# Altium footprint library Connectors.PcbLib: 29 footprints (part 2 of 2)
Each footprint in its own frame and in the unit in brackets; x right, y up, seen from the top. Pads: shape width x height; smd on the part's side, far side on the other; paste and mask are expansions set on the pad; w line width, h text height; cw(c..) or ccw(c..) is an arc to the next point about the centre after c.
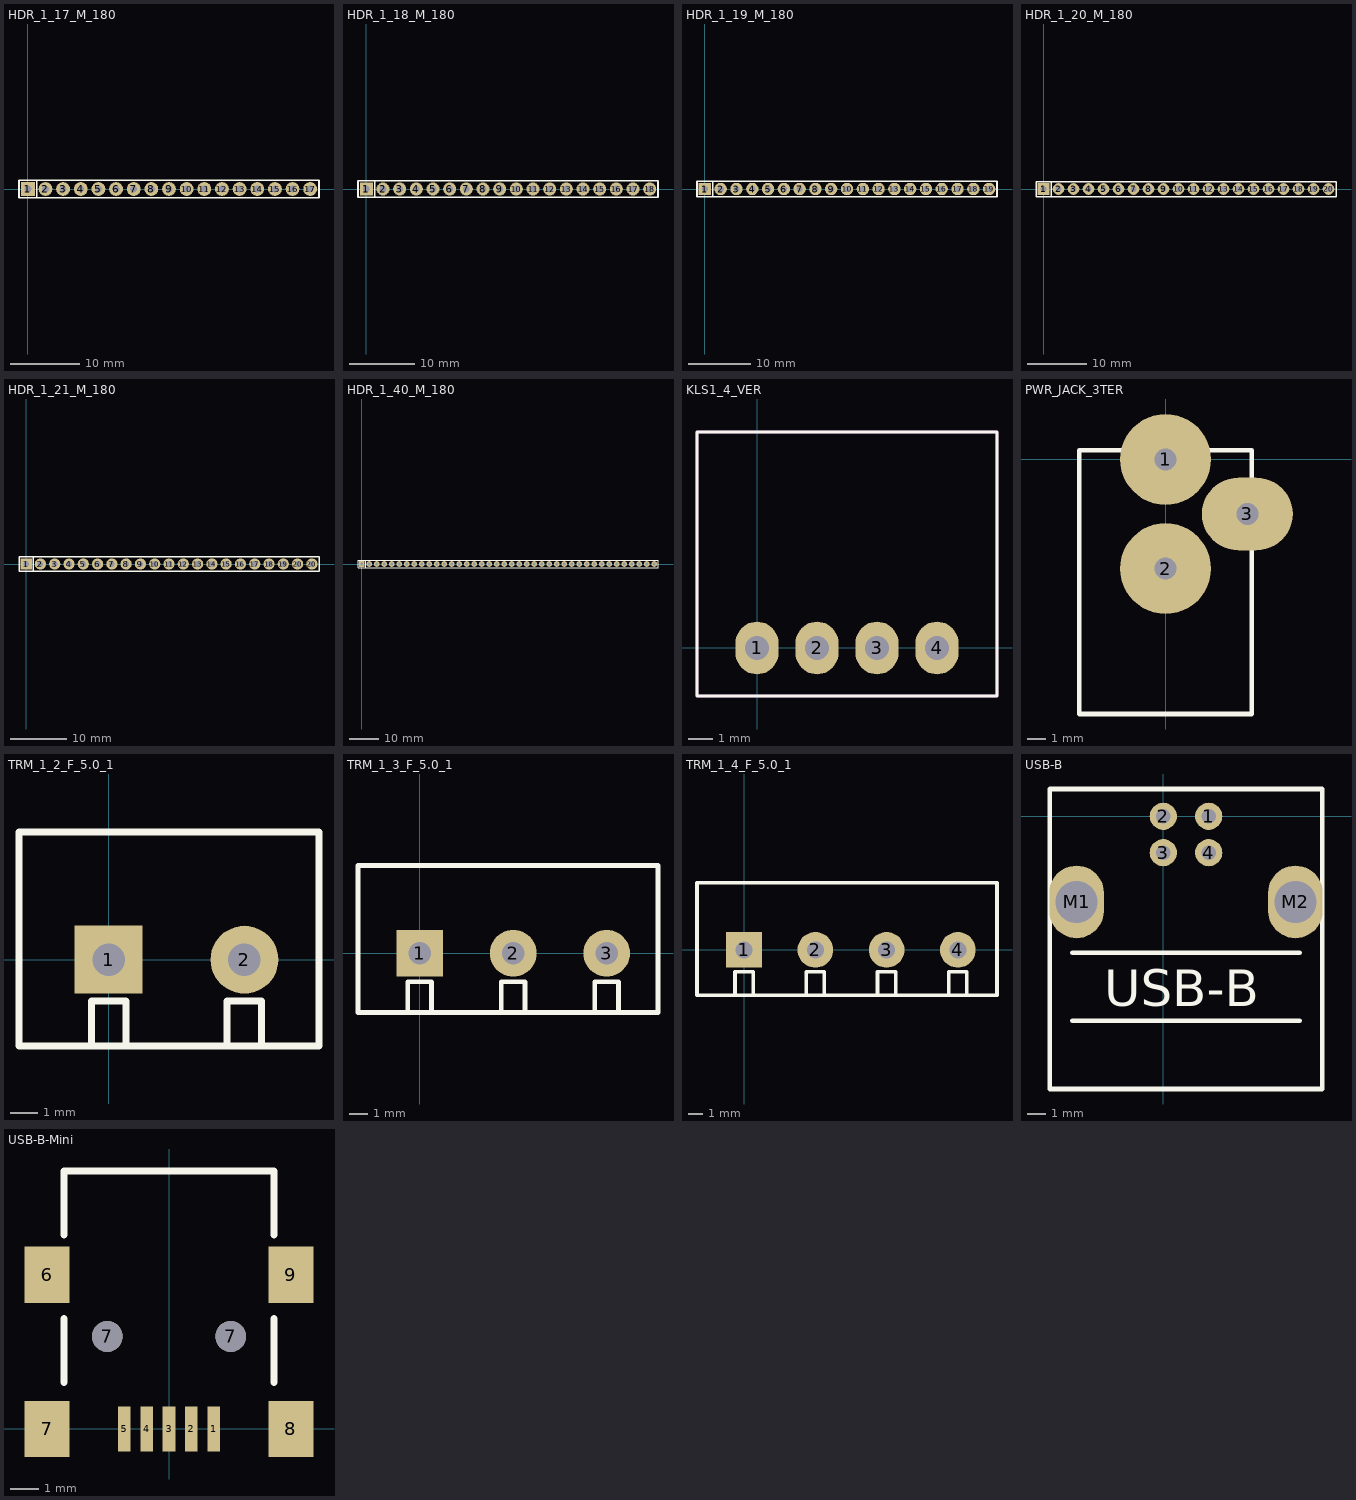
[diagram p1: the footprints below, top view; thin cyan lines are the x and y axes]

## HDR_1_17_M_180 [mm]
pads (17):
  rect 2x2 hole 1: 1(0,0)
  round 2 hole 1: 2(2.54,0) 3(5.08,0) 4(7.62,0) 5(10.16,0) 6(12.7,0) 7(15.24,0) 8(17.78,0) 9(20.32,0) 10(22.86,0) 11(25.4,0) 12(27.94,0) 13(30.48,0) 14(33.02,0) 15(35.56,0) 16(38.1,0) 17(40.64,0)
Top Overlay:
  lines w0.254: 1.27,-1.27 1.27,1.27 ; -1.27,-1.27 41.91,-1.27 41.91,1.27 -1.27,1.27 -1.27,-1.27
3D body "User Library-Header Vertical 2_54mm Pitch2-1.step": height 5.94, standoff -2.94, extent 34.29,-1.27 36.83,1.27
3D body "User Library-Header Vertical 2_54mm Pitch2-1.step": height 5.94, standoff -2.94, extent 31.75,-1.27 34.29,1.27
3D body "User Library-Header Vertical 2_54mm Pitch2-1.step": height 5.94, standoff -2.94, extent 29.21,-1.27 31.75,1.27
3D body "User Library-Header Vertical 2_54mm Pitch2-1.step": height 5.94, standoff -2.94, extent 26.67,-1.27 29.21,1.27
3D body "User Library-Header Vertical 2_54mm Pitch2-1.step": height 5.94, standoff -2.94, extent 24.13,-1.27 26.67,1.27
3D body "User Library-Header Vertical 2_54mm Pitch2-1.step": height 5.94, standoff -2.94, extent 39.37,-1.27 41.91,1.27
3D body "User Library-Header Vertical 2_54mm Pitch2-1.step": height 5.94, standoff -2.94, extent 36.83,-1.27 39.37,1.27
3D body "User Library-Header Vertical 2_54mm Pitch2-1.step": height 5.94, standoff -2.94, extent 8.89,-1.27 11.43,1.27
3D body "User Library-Header Vertical 2_54mm Pitch2-1.step": height 5.94, standoff -2.94, extent 6.35,-1.27 8.89,1.27
3D body "User Library-Header Vertical 2_54mm Pitch2-1.step": height 5.94, standoff -2.94, extent 3.81,-1.27 6.35,1.27
3D body "User Library-Header Vertical 2_54mm Pitch2-1.step": height 5.94, standoff -2.94, extent 1.27,-1.27 3.81,1.27
3D body "User Library-Header Vertical 2_54mm Pitch2-1.step": height 5.94, standoff -2.94, extent -1.27,-1.27 1.27,1.27
3D body "User Library-Header Vertical 2_54mm Pitch2-1.step": height 5.94, standoff -2.94, extent 11.43,-1.27 13.97,1.27
3D body "User Library-Header Vertical 2_54mm Pitch2-1.step": height 5.94, standoff -2.94, extent 13.97,-1.27 16.51,1.27
3D body "User Library-Header Vertical 2_54mm Pitch2-1.step": height 5.94, standoff -2.94, extent 16.51,-1.27 19.05,1.27
3D body "User Library-Header Vertical 2_54mm Pitch2-1.step": height 5.94, standoff -2.94, extent 19.05,-1.27 21.59,1.27
3D body "User Library-Header Vertical 2_54mm Pitch2-1.step": height 5.94, standoff -2.94, extent 21.59,-1.27 24.13,1.27

## HDR_1_18_M_180 [mm]
pads (18):
  rect 2x2 hole 1: 1(0,0)
  round 2 hole 1: 2(2.54,0) 3(5.08,0) 4(7.62,0) 5(10.16,0) 6(12.7,0) 7(15.24,0) 8(17.78,0) 9(20.32,0) 10(22.86,0) 11(25.4,0) 12(27.94,0) 13(30.48,0) 14(33.02,0) 15(35.56,0) 16(38.1,0) 17(40.64,0) 18(43.18,0)
Top Overlay:
  lines w0.254: 1.27,-1.27 1.27,1.27 ; -1.27,-1.27 -1.27,1.27 44.45,1.27 44.45,-1.27 -1.27,-1.27
3D body "User Library-Header Vertical 2_54mm Pitch2-1.step": height 5.94, standoff -2.94, extent 41.91,-1.27 44.45,1.27
3D body "User Library-Header Vertical 2_54mm Pitch2-1.step": height 5.94, standoff -2.94, extent 21.59,-1.27 24.13,1.27
3D body "User Library-Header Vertical 2_54mm Pitch2-1.step": height 5.94, standoff -2.94, extent 19.05,-1.27 21.59,1.27
3D body "User Library-Header Vertical 2_54mm Pitch2-1.step": height 5.94, standoff -2.94, extent 16.51,-1.27 19.05,1.27
3D body "User Library-Header Vertical 2_54mm Pitch2-1.step": height 5.94, standoff -2.94, extent 13.97,-1.27 16.51,1.27
3D body "User Library-Header Vertical 2_54mm Pitch2-1.step": height 5.94, standoff -2.94, extent 11.43,-1.27 13.97,1.27
3D body "User Library-Header Vertical 2_54mm Pitch2-1.step": height 5.94, standoff -2.94, extent -1.27,-1.27 1.27,1.27
3D body "User Library-Header Vertical 2_54mm Pitch2-1.step": height 5.94, standoff -2.94, extent 1.27,-1.27 3.81,1.27
3D body "User Library-Header Vertical 2_54mm Pitch2-1.step": height 5.94, standoff -2.94, extent 3.81,-1.27 6.35,1.27
3D body "User Library-Header Vertical 2_54mm Pitch2-1.step": height 5.94, standoff -2.94, extent 6.35,-1.27 8.89,1.27
3D body "User Library-Header Vertical 2_54mm Pitch2-1.step": height 5.94, standoff -2.94, extent 8.89,-1.27 11.43,1.27
3D body "User Library-Header Vertical 2_54mm Pitch2-1.step": height 5.94, standoff -2.94, extent 36.83,-1.27 39.37,1.27
3D body "User Library-Header Vertical 2_54mm Pitch2-1.step": height 5.94, standoff -2.94, extent 39.37,-1.27 41.91,1.27
3D body "User Library-Header Vertical 2_54mm Pitch2-1.step": height 5.94, standoff -2.94, extent 24.13,-1.27 26.67,1.27
3D body "User Library-Header Vertical 2_54mm Pitch2-1.step": height 5.94, standoff -2.94, extent 26.67,-1.27 29.21,1.27
3D body "User Library-Header Vertical 2_54mm Pitch2-1.step": height 5.94, standoff -2.94, extent 29.21,-1.27 31.75,1.27
3D body "User Library-Header Vertical 2_54mm Pitch2-1.step": height 5.94, standoff -2.94, extent 31.75,-1.27 34.29,1.27
3D body "User Library-Header Vertical 2_54mm Pitch2-1.step": height 5.94, standoff -2.94, extent 34.29,-1.27 36.83,1.27

## HDR_1_19_M_180 [mm]
pads (19):
  rect 2x2 hole 1: 1(0,0)
  round 2 hole 1: 2(2.54,0) 3(5.08,0) 4(7.62,0) 5(10.16,0) 6(12.7,0) 7(15.24,0) 8(17.78,0) 9(20.32,0) 10(22.86,0) 11(25.4,0) 12(27.94,0) 13(30.48,0) 14(33.02,0) 15(35.56,0) 16(38.1,0) 17(40.64,0) 18(43.18,0) 19(45.72,0)
Top Overlay:
  lines w0.254: 1.27,-1.27 1.27,1.27 ; -1.27,-1.27 -1.27,1.27 46.99,1.27 46.99,-1.27 -1.27,-1.27
3D body "User Library-Header Vertical 2_54mm Pitch2-1.step": height 5.94, standoff -2.94, extent 21.59,-1.27 24.13,1.27
3D body "User Library-Header Vertical 2_54mm Pitch2-1.step": height 5.94, standoff -2.94, extent 19.05,-1.27 21.59,1.27
3D body "User Library-Header Vertical 2_54mm Pitch2-1.step": height 5.94, standoff -2.94, extent 16.51,-1.27 19.05,1.27
3D body "User Library-Header Vertical 2_54mm Pitch2-1.step": height 5.94, standoff -2.94, extent 13.97,-1.27 16.51,1.27
3D body "User Library-Header Vertical 2_54mm Pitch2-1.step": height 5.94, standoff -2.94, extent 11.43,-1.27 13.97,1.27
3D body "User Library-Header Vertical 2_54mm Pitch2-1.step": height 5.94, standoff -2.94, extent -1.27,-1.27 1.27,1.27
3D body "User Library-Header Vertical 2_54mm Pitch2-1.step": height 5.94, standoff -2.94, extent 1.27,-1.27 3.81,1.27
3D body "User Library-Header Vertical 2_54mm Pitch2-1.step": height 5.94, standoff -2.94, extent 3.81,-1.27 6.35,1.27
3D body "User Library-Header Vertical 2_54mm Pitch2-1.step": height 5.94, standoff -2.94, extent 6.35,-1.27 8.89,1.27
3D body "User Library-Header Vertical 2_54mm Pitch2-1.step": height 5.94, standoff -2.94, extent 8.89,-1.27 11.43,1.27
3D body "User Library-Header Vertical 2_54mm Pitch2-1.step": height 5.94, standoff -2.94, extent 36.83,-1.27 39.37,1.27
3D body "User Library-Header Vertical 2_54mm Pitch2-1.step": height 5.94, standoff -2.94, extent 39.37,-1.27 41.91,1.27
3D body "User Library-Header Vertical 2_54mm Pitch2-1.step": height 5.94, standoff -2.94, extent 41.91,-1.27 44.45,1.27
3D body "User Library-Header Vertical 2_54mm Pitch2-1.step": height 5.94, standoff -2.94, extent 44.45,-1.27 46.99,1.27
3D body "User Library-Header Vertical 2_54mm Pitch2-1.step": height 5.94, standoff -2.94, extent 24.13,-1.27 26.67,1.27
3D body "User Library-Header Vertical 2_54mm Pitch2-1.step": height 5.94, standoff -2.94, extent 26.67,-1.27 29.21,1.27
3D body "User Library-Header Vertical 2_54mm Pitch2-1.step": height 5.94, standoff -2.94, extent 29.21,-1.27 31.75,1.27
3D body "User Library-Header Vertical 2_54mm Pitch2-1.step": height 5.94, standoff -2.94, extent 31.75,-1.27 34.29,1.27
3D body "User Library-Header Vertical 2_54mm Pitch2-1.step": height 5.94, standoff -2.94, extent 34.29,-1.27 36.83,1.27

## HDR_1_20_M_180 [mm]
pads (20):
  rect 2x2 hole 1: 1(0,0)
  round 2 hole 1: 2(2.54,0) 3(5.08,0) 4(7.62,0) 5(10.16,0) 6(12.7,0) 7(15.24,0) 8(17.78,0) 9(20.32,0) 10(22.86,0) 11(25.4,0) 12(27.94,0) 13(30.48,0) 14(33.02,0) 15(35.56,0) 16(38.1,0) 17(40.64,0) 18(43.18,0) 19(45.72,0) 20(48.26,0)
Top Overlay:
  lines w0.254: 1.27,-1.27 1.27,1.27 ; -1.27,-1.27 49.53,-1.27 49.53,1.27 -1.27,1.27 -1.27,-1.27
3D body "User Library-Header Vertical 2_54mm Pitch2-1.step": height 5.94, standoff -2.94, extent 34.29,-1.27 36.83,1.27
3D body "User Library-Header Vertical 2_54mm Pitch2-1.step": height 5.94, standoff -2.94, extent 31.75,-1.27 34.29,1.27
3D body "User Library-Header Vertical 2_54mm Pitch2-1.step": height 5.94, standoff -2.94, extent 29.21,-1.27 31.75,1.27
3D body "User Library-Header Vertical 2_54mm Pitch2-1.step": height 5.94, standoff -2.94, extent 26.67,-1.27 29.21,1.27
3D body "User Library-Header Vertical 2_54mm Pitch2-1.step": height 5.94, standoff -2.94, extent 24.13,-1.27 26.67,1.27
3D body "User Library-Header Vertical 2_54mm Pitch2-1.step": height 5.94, standoff -2.94, extent 46.99,-1.27 49.53,1.27
3D body "User Library-Header Vertical 2_54mm Pitch2-1.step": height 5.94, standoff -2.94, extent 44.45,-1.27 46.99,1.27
3D body "User Library-Header Vertical 2_54mm Pitch2-1.step": height 5.94, standoff -2.94, extent 41.91,-1.27 44.45,1.27
3D body "User Library-Header Vertical 2_54mm Pitch2-1.step": height 5.94, standoff -2.94, extent 39.37,-1.27 41.91,1.27
3D body "User Library-Header Vertical 2_54mm Pitch2-1.step": height 5.94, standoff -2.94, extent 36.83,-1.27 39.37,1.27
3D body "User Library-Header Vertical 2_54mm Pitch2-1.step": height 5.94, standoff -2.94, extent 8.89,-1.27 11.43,1.27
3D body "User Library-Header Vertical 2_54mm Pitch2-1.step": height 5.94, standoff -2.94, extent 6.35,-1.27 8.89,1.27
3D body "User Library-Header Vertical 2_54mm Pitch2-1.step": height 5.94, standoff -2.94, extent 3.81,-1.27 6.35,1.27
3D body "User Library-Header Vertical 2_54mm Pitch2-1.step": height 5.94, standoff -2.94, extent 1.27,-1.27 3.81,1.27
3D body "User Library-Header Vertical 2_54mm Pitch2-1.step": height 5.94, standoff -2.94, extent -1.27,-1.27 1.27,1.27
3D body "User Library-Header Vertical 2_54mm Pitch2-1.step": height 5.94, standoff -2.94, extent 11.43,-1.27 13.97,1.27
3D body "User Library-Header Vertical 2_54mm Pitch2-1.step": height 5.94, standoff -2.94, extent 13.97,-1.27 16.51,1.27
3D body "User Library-Header Vertical 2_54mm Pitch2-1.step": height 5.94, standoff -2.94, extent 16.51,-1.27 19.05,1.27
3D body "User Library-Header Vertical 2_54mm Pitch2-1.step": height 5.94, standoff -2.94, extent 19.05,-1.27 21.59,1.27
3D body "User Library-Header Vertical 2_54mm Pitch2-1.step": height 5.94, standoff -2.94, extent 21.59,-1.27 24.13,1.27

## HDR_1_21_M_180 [mm]
pads (21):
  rect 2x2 hole 1: 1(0,0)
  round 2 hole 1: 2(2.54,0) 3(5.08,0) 4(7.62,0) 5(10.16,0) 6(12.7,0) 7(15.24,0) 8(17.78,0) 9(20.32,0) 10(22.86,0) 11(25.4,0) 12(27.94,0) 13(30.48,0) 14(33.02,0) 15(35.56,0) 16(38.1,0) 17(40.64,0) 18(43.18,0) 19(45.72,0) 20(48.26,0) 20(50.8,0)
Top Overlay:
  lines w0.254: 1.27,-1.27 1.27,1.27 ; -1.27,-1.27 52.07,-1.27 52.07,1.27 -1.27,1.27 -1.27,-1.27
3D body "User Library-Header Vertical 2_54mm Pitch2-1.step": height 5.94, standoff -2.94, extent 34.29,-1.27 36.83,1.27
3D body "User Library-Header Vertical 2_54mm Pitch2-1.step": height 5.94, standoff -2.94, extent 31.75,-1.27 34.29,1.27
3D body "User Library-Header Vertical 2_54mm Pitch2-1.step": height 5.94, standoff -2.94, extent 29.21,-1.27 31.75,1.27
3D body "User Library-Header Vertical 2_54mm Pitch2-1.step": height 5.94, standoff -2.94, extent 26.67,-1.27 29.21,1.27
3D body "User Library-Header Vertical 2_54mm Pitch2-1.step": height 5.94, standoff -2.94, extent 24.13,-1.27 26.67,1.27
3D body "User Library-Header Vertical 2_54mm Pitch2-1.step": height 5.94, standoff -2.94, extent 46.99,-1.27 49.53,1.27
3D body "User Library-Header Vertical 2_54mm Pitch2-1.step": height 5.94, standoff -2.94, extent 44.45,-1.27 46.99,1.27
3D body "User Library-Header Vertical 2_54mm Pitch2-1.step": height 5.94, standoff -2.94, extent 41.91,-1.27 44.45,1.27
3D body "User Library-Header Vertical 2_54mm Pitch2-1.step": height 5.94, standoff -2.94, extent 39.37,-1.27 41.91,1.27
3D body "User Library-Header Vertical 2_54mm Pitch2-1.step": height 5.94, standoff -2.94, extent 36.83,-1.27 39.37,1.27
3D body "User Library-Header Vertical 2_54mm Pitch2-1.step": height 5.94, standoff -2.94, extent 8.89,-1.27 11.43,1.27
3D body "User Library-Header Vertical 2_54mm Pitch2-1.step": height 5.94, standoff -2.94, extent 6.35,-1.27 8.89,1.27
3D body "User Library-Header Vertical 2_54mm Pitch2-1.step": height 5.94, standoff -2.94, extent 3.81,-1.27 6.35,1.27
3D body "User Library-Header Vertical 2_54mm Pitch2-1.step": height 5.94, standoff -2.94, extent 1.27,-1.27 3.81,1.27
3D body "User Library-Header Vertical 2_54mm Pitch2-1.step": height 5.94, standoff -2.94, extent -1.27,-1.27 1.27,1.27
3D body "User Library-Header Vertical 2_54mm Pitch2-1.step": height 5.94, standoff -2.94, extent 11.43,-1.27 13.97,1.27
3D body "User Library-Header Vertical 2_54mm Pitch2-1.step": height 5.94, standoff -2.94, extent 13.97,-1.27 16.51,1.27
3D body "User Library-Header Vertical 2_54mm Pitch2-1.step": height 5.94, standoff -2.94, extent 16.51,-1.27 19.05,1.27
3D body "User Library-Header Vertical 2_54mm Pitch2-1.step": height 5.94, standoff -2.94, extent 19.05,-1.27 21.59,1.27
3D body "User Library-Header Vertical 2_54mm Pitch2-1.step": height 5.94, standoff -2.94, extent 21.59,-1.27 24.13,1.27
3D body "User Library-Header Vertical 2_54mm Pitch2-1.step": height 5.94, standoff -2.94, extent 49.53,-1.27 52.07,1.27

## HDR_1_40_M_180 [mm]
pads (40):
  rect 2x2 hole 1: 1(0,0)
  round 2 hole 1: 2(2.54,0) 3(5.08,0) 4(7.62,0) 5(10.16,0) 6(12.7,0) 7(15.24,0) 8(17.78,0) 9(20.32,0) 10(22.86,0) 11(25.4,0) 12(27.94,0) 13(30.48,0) 14(33.02,0) 15(35.56,0) 16(38.1,0) 17(40.64,0) 18(43.18,0) 19(45.72,0) 20(48.26,0) 21(50.8,0) 22(53.34,0) 23(55.88,0) 24(58.42,0) 25(60.96,0) 26(63.5,0) 27(66.04,0) 28(68.58,0) 29(71.12,0) 30(73.66,0) 31(76.2,0) 32(78.74,0) 33(81.28,0) 34(83.82,0) 35(86.36,0) 36(88.9,0) 37(91.44,0) 38(93.98,0) 39(96.52,0) 40(99.06,0)
Top Overlay:
  lines w0.254: 1.27,-1.27 1.27,1.27 ; -1.27,-1.27 -1.27,1.27 100.33,1.27 100.33,-1.27 -1.27,-1.27
3D body "User Library-Header Vertical 2_54mm Pitch2-1.step": height 5.94, standoff -2.94, extent 49.53,-1.27 52.07,1.27
3D body "User Library-Header Vertical 2_54mm Pitch2-1.step": height 5.94, standoff -2.94, extent 97.79,-1.27 100.33,1.27
3D body "User Library-Header Vertical 2_54mm Pitch2-1.step": height 5.94, standoff -2.94, extent 95.25,-1.27 97.79,1.27
3D body "User Library-Header Vertical 2_54mm Pitch2-1.step": height 5.94, standoff -2.94, extent 92.71,-1.27 95.25,1.27
3D body "User Library-Header Vertical 2_54mm Pitch2-1.step": height 5.94, standoff -2.94, extent 90.17,-1.27 92.71,1.27
3D body "User Library-Header Vertical 2_54mm Pitch2-1.step": height 5.94, standoff -2.94, extent 87.63,-1.27 90.17,1.27
3D body "User Library-Header Vertical 2_54mm Pitch2-1.step": height 5.94, standoff -2.94, extent 85.09,-1.27 87.63,1.27
3D body "User Library-Header Vertical 2_54mm Pitch2-1.step": height 5.94, standoff -2.94, extent 82.55,-1.27 85.09,1.27
3D body "User Library-Header Vertical 2_54mm Pitch2-1.step": height 5.94, standoff -2.94, extent 80.01,-1.27 82.55,1.27
3D body "User Library-Header Vertical 2_54mm Pitch2-1.step": height 5.94, standoff -2.94, extent 77.47,-1.27 80.01,1.27
3D body "User Library-Header Vertical 2_54mm Pitch2-1.step": height 5.94, standoff -2.94, extent 74.93,-1.27 77.47,1.27
3D body "User Library-Header Vertical 2_54mm Pitch2-1.step": height 5.94, standoff -2.94, extent 72.39,-1.27 74.93,1.27
3D body "User Library-Header Vertical 2_54mm Pitch2-1.step": height 5.94, standoff -2.94, extent 69.85,-1.27 72.39,1.27
3D body "User Library-Header Vertical 2_54mm Pitch2-1.step": height 5.94, standoff -2.94, extent 67.31,-1.27 69.85,1.27
3D body "User Library-Header Vertical 2_54mm Pitch2-1.step": height 5.94, standoff -2.94, extent 64.77,-1.27 67.31,1.27
3D body "User Library-Header Vertical 2_54mm Pitch2-1.step": height 5.94, standoff -2.94, extent 62.23,-1.27 64.77,1.27
3D body "User Library-Header Vertical 2_54mm Pitch2-1.step": height 5.94, standoff -2.94, extent 59.69,-1.27 62.23,1.27
3D body "User Library-Header Vertical 2_54mm Pitch2-1.step": height 5.94, standoff -2.94, extent 57.15,-1.27 59.69,1.27
3D body "User Library-Header Vertical 2_54mm Pitch2-1.step": height 5.94, standoff -2.94, extent 54.61,-1.27 57.15,1.27
3D body "User Library-Header Vertical 2_54mm Pitch2-1.step": height 5.94, standoff -2.94, extent 52.07,-1.27 54.61,1.27
3D body "User Library-Header Vertical 2_54mm Pitch2-1.step": height 5.94, standoff -2.94, extent 21.59,-1.27 24.13,1.27
3D body "User Library-Header Vertical 2_54mm Pitch2-1.step": height 5.94, standoff -2.94, extent 19.05,-1.27 21.59,1.27
3D body "User Library-Header Vertical 2_54mm Pitch2-1.step": height 5.94, standoff -2.94, extent 16.51,-1.27 19.05,1.27
3D body "User Library-Header Vertical 2_54mm Pitch2-1.step": height 5.94, standoff -2.94, extent 13.97,-1.27 16.51,1.27
3D body "User Library-Header Vertical 2_54mm Pitch2-1.step": height 5.94, standoff -2.94, extent 11.43,-1.27 13.97,1.27
3D body "User Library-Header Vertical 2_54mm Pitch2-1.step": height 5.94, standoff -2.94, extent -1.27,-1.27 1.27,1.27
3D body "User Library-Header Vertical 2_54mm Pitch2-1.step": height 5.94, standoff -2.94, extent 1.27,-1.27 3.81,1.27
3D body "User Library-Header Vertical 2_54mm Pitch2-1.step": height 5.94, standoff -2.94, extent 3.81,-1.27 6.35,1.27
3D body "User Library-Header Vertical 2_54mm Pitch2-1.step": height 5.94, standoff -2.94, extent 6.35,-1.27 8.89,1.27
3D body "User Library-Header Vertical 2_54mm Pitch2-1.step": height 5.94, standoff -2.94, extent 8.89,-1.27 11.43,1.27
3D body "User Library-Header Vertical 2_54mm Pitch2-1.step": height 5.94, standoff -2.94, extent 36.83,-1.27 39.37,1.27
3D body "User Library-Header Vertical 2_54mm Pitch2-1.step": height 5.94, standoff -2.94, extent 39.37,-1.27 41.91,1.27
3D body "User Library-Header Vertical 2_54mm Pitch2-1.step": height 5.94, standoff -2.94, extent 41.91,-1.27 44.45,1.27
3D body "User Library-Header Vertical 2_54mm Pitch2-1.step": height 5.94, standoff -2.94, extent 44.45,-1.27 46.99,1.27
3D body "User Library-Header Vertical 2_54mm Pitch2-1.step": height 5.94, standoff -2.94, extent 46.99,-1.27 49.53,1.27
3D body "User Library-Header Vertical 2_54mm Pitch2-1.step": height 5.94, standoff -2.94, extent 24.13,-1.27 26.67,1.27
3D body "User Library-Header Vertical 2_54mm Pitch2-1.step": height 5.94, standoff -2.94, extent 26.67,-1.27 29.21,1.27
3D body "User Library-Header Vertical 2_54mm Pitch2-1.step": height 5.94, standoff -2.94, extent 29.21,-1.27 31.75,1.27
3D body "User Library-Header Vertical 2_54mm Pitch2-1.step": height 5.94, standoff -2.94, extent 31.75,-1.27 34.29,1.27
3D body "User Library-Header Vertical 2_54mm Pitch2-1.step": height 5.94, standoff -2.94, extent 34.29,-1.27 36.83,1.27

## KLS1_4_VER [mm]
pads (4):
  oval 1.8x2.2 hole 1: 1(0,0) 2(2.5,0) 3(5,0) 4(7.5,0)
Top Overlay:
  lines w0.127: -2.5,-2 -2.5,9 10,9 10,-2 -2.5,-2
Mechanical 15:
  lines w0.127: -2.5,-2 -2.5,9 10,9 10,-2 -2.5,-2
  text ".Designator" at 0.508,2.921 h0.76
3D body: height 5.5, standoff 0, extent -2.5,-2 10,9

## PWR_JACK_3TER [mm]
pads (3):
  round 5 hole 1.2 square: 1(0,0) 2(0,-6)
  oval 5x4 hole 1.2 square: 3(4.5,-3)
Top Overlay:
  lines w0.254: -4.75,-14 4.75,-14 4.75,0 4.75,0.5 4.5,0.5 -4.5,0.5 -4.75,0.5 -4.75,0 -4.75,-14
3D body "PJ-002B.stp": height 11.5, standoff -3, extent -4.7,-13.95 4.7,0.45

## TRM_1_2_F_5.0_1 [mm]
pads (2):
  rect 2.5x2.5 hole 1.2: 1(0,0)
  round 2.5 hole 1.2: 2(5,0)
Top Overlay:
  lines w0.254: -0.635,-3.175 -0.635,-1.524 0.635,-1.524 0.635,-3.175 ; 4.365,-3.175 4.365,-1.524 5.635,-1.524 5.635,-3.175 ; -3.302,-3.175 7.747,-3.175 7.747,4.699 -3.302,4.699 -3.302,-3.175
3D body "terminal_blocks_a-tb500-ti02.stp": height 14.2, standoff -3.5, extent -3.141,-4.839 7.459,5.461

## TRM_1_3_F_5.0_1 [mm]
pads (3):
  rect 2.5x2.5 hole 1.2: 1(0,0)
  round 2.5 hole 1.2: 2(5,0) 3(10,0)
Top Overlay:
  lines w0.254: -0.635,-3.175 -0.635,-1.524 0.635,-1.524 0.635,-3.175 ; 4.365,-3.175 4.365,-1.524 5.635,-1.524 5.635,-3.175 ; 9.365,-3.175 9.365,-1.524 10.635,-1.524 10.635,-3.175 ; -3.302,-3.175 12.747,-3.175 12.747,4.699 -3.302,4.699 -3.302,-3.175
3D body "User Library-Terminal block 3 POS__155.sldprt": height 10, standoff 0, extent -2.62,-3.173 12.62,4.327

## TRM_1_4_F_5.0_1 [mm]
pads (4):
  rect 2.5x2.5 hole 1.2: 1(0,0)
  round 2.5 hole 1.2: 2(5,0) 3(10,0) 4(15,0)
Top Overlay:
  lines w0.254: -0.635,-3.175 -0.635,-1.524 0.635,-1.524 0.635,-3.175 ; 4.365,-3.175 4.365,-1.524 5.635,-1.524 5.635,-3.175 ; 9.365,-3.175 9.365,-1.524 10.635,-1.524 10.635,-3.175 ; 14.365,-3.175 14.365,-1.524 15.635,-1.524 15.635,-3.175 ; -3.302,-3.175 -3.302,4.699 17.747,4.699 17.747,-3.175 -3.302,-3.175
3D body "User Library-Terminal block 2 POS__155.sldprt": height 10, standoff 0, extent 7.206,-3.046 17.366,4.454
3D body "User Library-Terminal block 2 POS__155.sldprt": height 10, standoff 0, extent -3.048,-3.046 7.112,4.454

## USB-B [mm]
pads (6):
  round 1.5 hole 0.8: 1(2.5,0) 2(0,0) 3(0,-2) 4(2.5,-2)
  oval 3x4 hole 2.3: M1(-4.77,-4.71) M2(7.27,-4.71)
Top Overlay:
  lines w0.254: -5,-11.25 7.5,-11.25 ; -5,-7.5 7.5,-7.5 ; -6.25,-15 8.75,-15 8.75,1.5 -6.25,1.5 -6.25,-15
  text "USB-B" at -3.25,-10.452 h2
3D body "User Library-Samtec - USB-B-S-X-W-TH.STEP": height 12, standoff -2.64, extent -6.15,-14.95 8.649,1.55

## USB-B-Mini [mm]
pads (11):
  rect 0.45x1.6 smd: 1(1.6,0) 2(0.8,0) 3(0,0) 4(-0.8,0) 5(-1.6,0)
  rect 1.6x2 smd: 6(-4.35,5.5) 7(-4.35,0) 8(4.35,0) 9(4.35,5.5)
  round 1.1 hole 1.1 unplated: 7(-2.2,3.3) 7(2.2,3.3)
Top Overlay:
  lines w0.254: -3.75,1.655 -3.75,3.937 ; -3.75,6.918 -3.75,9.2 3.75,9.2 3.75,6.918 ; 3.75,1.655 3.75,3.937
3D body "usb_a-usb_b-m5-smd-c.stp": height 3.93, standoff -1, extent -4.944,-0.725 4.956,8.525